# Altium schematic symbol library HomeProjects.SchLib: 161 symbols
Pins are listed as number, name and electrical type; pins without a type are passive.

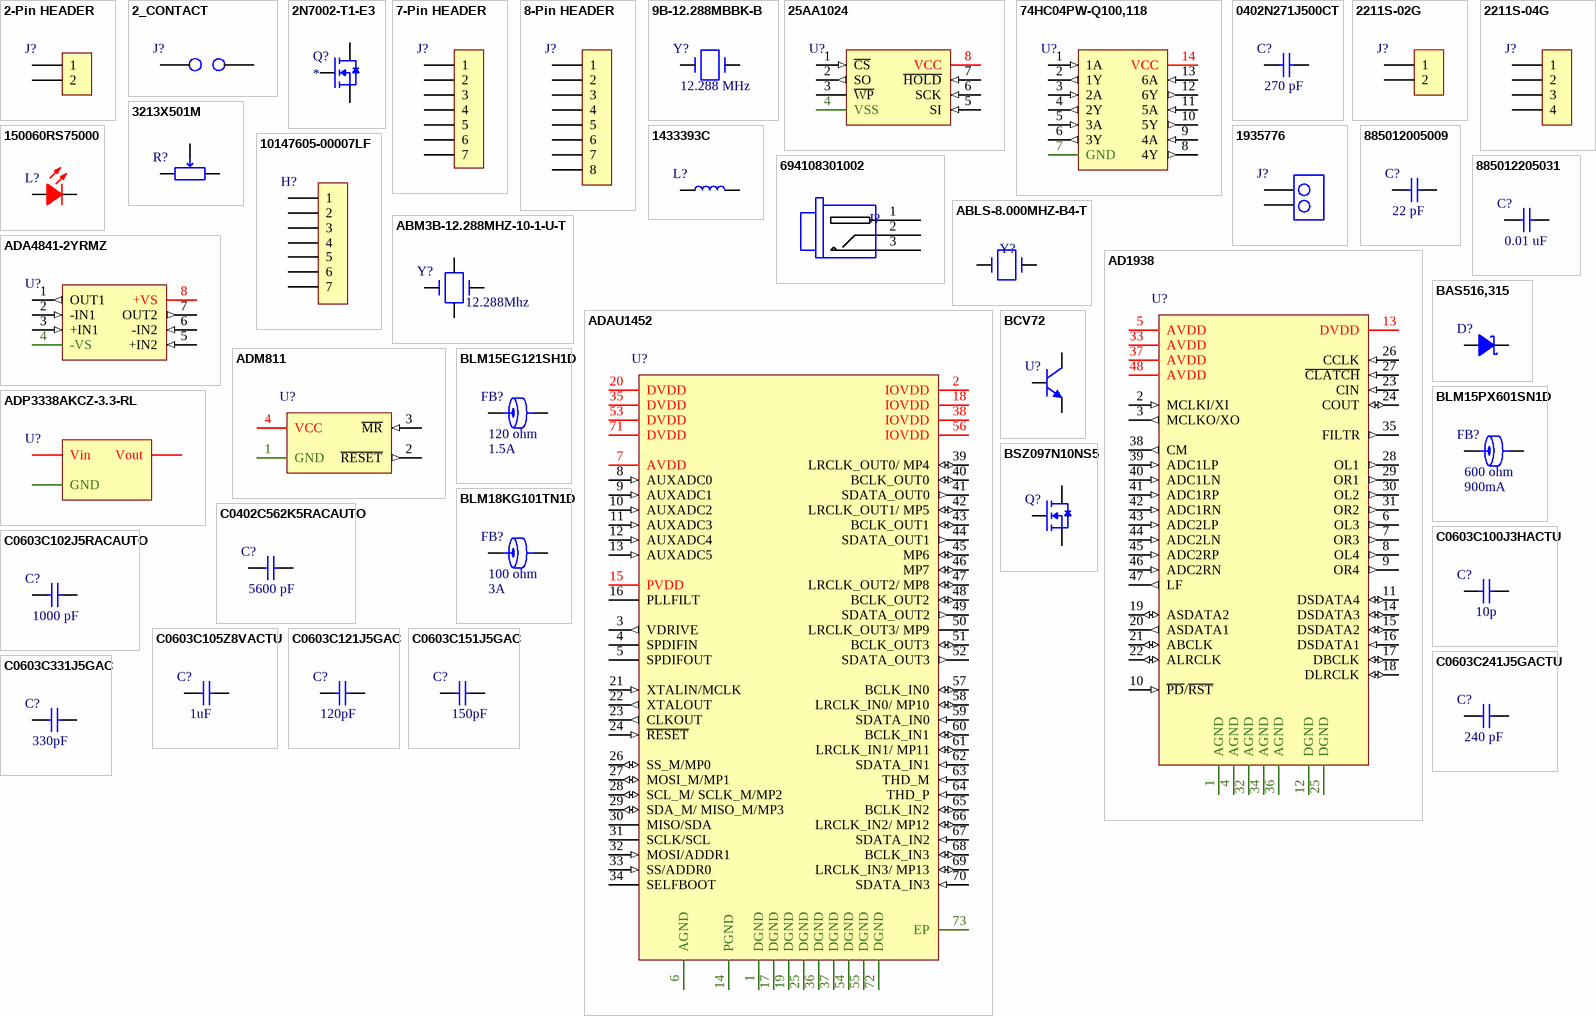
[diagram p0: symbols 2-Pin HEADER to C0603C331J5GAC]

## 2-Pin HEADER
designator J?  (value not drawn)
footprint 2-Pin Header
pins: 1, 2

## 2_CONTACT
designator J?  (value not drawn)
SMD contact, 2 pin, 1mm center distance
footprint 2_CONTACT
pins: 1, 2

## 2N7002-T1-E3
designator Q?
MOSFET 60V 0.115A 0.2W
footprint SOT-23-3
pins: D, G, S

## 7-Pin HEADER
designator J?  (value not drawn)
Board-To-Board Connector, Vertical, 2.54 mm, 2 Contacts, Header, Through Hole, 1 Rows
footprint 7-Pin HEADER
pins: 1, 2, 3, 4, 5, 6, 7

## 8-Pin HEADER
designator J?  (value not drawn)
Board-To-Board Connector, Vertical, 2.54 mm, 2 Contacts, Header, Through Hole, 1 Rows
footprint 8-Pin HEADER
pins: 1, 2, 3, 4, 5, 6, 7, 8

## 9B-12.288MBBK-B
designator Y?  Frequency: 12.288 MHz  (hidden comment: *)
Crystal, 12.288 MHz, Through Hole, 11.5mm x 5mm, 50 ppm, 20 pF, 50 ppm, 9B Series
footprint 11.5x5 Crystal
pins: 1, 2

## 25AA1024
designator U?  (value not drawn)
1 Mbit SPI Bus Serial EEPROM
footprint SM-8
pins: 1 ~{CS} (in), 2 SO (out), 3 ~{WP}, 4 VSS (power), 5 SI (in), 6 SCK (in), 7 ~{HOLD} (in), 8 VCC (power)

## 74HC04PW-Q100,118
designator U?  (value not drawn)
Inverters 74HC(T)04-Q100 - Hex inverter
footprint TSSOP-14
pins: 1 1A (in), 2 1Y (out), 3 2A (in), 4 2Y (out), 5 3A (in), 6 3Y (out), 7 GND (power), 8 4Y (out), 9 4A (in), 10 5Y (out), 11 5A (in), 12 6Y (out), 13 6A (in), 14 VCC (power)

## 0402N271J500CT
designator C?  Capacitance: 270 pF  (hidden comment: *)
SMD Multilayer Ceramic Capacitor, General Purpose, 0402 [1005 Metric], 270 pF, 50 V, ± 5%
footprint 0402
pins: 1, 2

## 2211S-02G
designator J?  (value not drawn)
Board-To-Board Connector, Vertical, 2.54 mm, 2 Contacts, Header, 2211S Series, Through Hole, 1 Rows
footprint 2-Pin Header
pins: 1, 2

## 2211S-04G
designator J?  (value not drawn)
Board-To-Board Connector, Vertical, 2.54 mm, 4 Contacts, Header, 2211S Series, Through Hole, 1 Rows
footprint 4-Pin Header
pins: 1, 2, 3, 4

## 3213X501M
designator R?  (value not drawn)
Trimmer Resistors - SMD 3213 500R
footprint 3213X501M
pins: 1, 2, 3

## 150060RS75000
designator L?  (value not drawn)
Standard LEDs - SMD WL-SMCW SMDMono TpVw Waterclr 0603 Red, 20mA, 2V
footprint 0603_LED
pins: A, K

## 1433393C
designator L?  (value not drawn)
Bobbin Type Inductor, 33uH, Idc=9.3A, Rdc=15mOhm, f=9.1Mhz
footprint Murate Inductor
pins: 1, 2

## 1935776
designator J?  (value not drawn)
PCB terminal block, nominal current: 32 A, nom. voltage: 400 V, pitch: 5 mm, number of positions: 2
footprint PT 2,5/ 2-5,0-H
pins: 1, 2

## 10147605-00007LF
designator H?  (value not drawn)
Headers & Wire Housings Vertical SMT Header, 7-positions
footprint 10147605
pins: 1, 2, 3, 4, 5, 6, 7

## 694108301002
designator J?  (value not drawn)
DC Power Connector, Jack, 5 A, 2.5 mm, Through Hole Mount, Through Hole
footprint POWER JACK
pins: 1, 2, 3

## 885012005009
designator C?  Capacitance: 22 pF  (hidden comment: *)
SMD Multilayer Ceramic Capacitor, 0402 [1005 Metric], 22 pF, 10 V, ± 5%, C0G / NP0
footprint 0402
pins: 1, 2

## 885012205031
designator C?  Capacitance: 0.01 uF  (hidden comment: *)
SMD Multilayer Ceramic Capacitor, 0402 [1005 Metric], 0.01 µF, 16 V, ± 10%, X7R, WCAP-CSGP Series
footprint 0402
pins: 1, 2

## ABLS-8.000MHZ-B4-T
designator Y?  (value not drawn)
Crystal, 8 MHz, SMD, 11.5mm x 4.7mm, 50 ppm, 18 pF, 30 ppm, ABLS Series
footprint HC/49US (AT49)
pins: 1, 2

## ABM3B-12.288MHZ-10-1-U-T
designator Y?  Frequency: 12.288Mhz  (hidden comment: *)
Crystals +/-10PPM 12.288MHZ 10pF Fundamental
footprint ABM3B
pins: 1, 2, 3, 4

## AD1938
designator U?  (value not drawn)
4 ADC/8 DAC with PLL, 192kHz, 24-Bit Codec
footprint 48-LQFP
pins: 1 AGND (power), 2 MCLKI/XI (in), 3 MCLKO/XO (out), 4 AGND (power), 5 AVDD (power), 6 OL3 (out), 7 OR3 (out), 8 OL4 (out), 9 OR4 (out), 10 ~{PD}/~{RST} (in), 11 DSDATA4 (io), 12 DGND (power), 13 DVDD (power), 14 DSDATA3 (io), 15 DSDATA2 (io), 16 DSDATA1 (in), 17 DBCLK (io), 18 DLRCLK (io), 19 ASDATA2 (io), 20 ASDATA1 (out), 21 ABCLK (io), 22 ALRCLK (io), 23 CIN (in), 24 COUT (io), 25 DGND (power), 26 CCLK (in), 27 ~{CLATCH} (in), 28 OL1 (out), 29 OR1 (out), 30 OL2 (out), 31 OR2 (out), 32 AGND (power), 33 AVDD (power), 34 AGND (power), 35 FILTR (out), 36 AGND (power), 37 AVDD (power), 38 CM (out), 39 ADC1LP (in), 40 ADC1LN (in), 41 ADC1RP (in), 42 ADC1RN (in), 43 ADC2LP (in), 44 ADC2LN (in), 45 ADC2RP (in), 46 ADC2RN (in), 47 LF (out), 48 AVDD (power)

## ADA4841-2YRMZ
designator U?  (value not drawn)
Low Power, Low Noise and Distortion,Rail-to-Rail Output Amplifiers
footprint MSOP-8
pins: 1 OUT1 (out), 2 -IN1 (in), 3 +IN1 (in), 4 -VS (power), 5 +IN2 (in), 6 -IN2 (in), 7 OUT2 (out), 8 +VS (power)

## ADAU1452
designator U?  (value not drawn)
Analog Devices SigmaDSP Digital Audio Processor
footprint 72-LFCSP_VQ
pins: 1 DGND (power), 2 IOVDD (power), 3 VDRIVE (out), 4 SPDIFIN, 5 SPDIFOUT, 6 AGND (power), 7 AVDD (power), 8 AUXADC0 (in), 9 AUXADC1 (in), 10 AUXADC2 (in), 11 AUXADC3 (in), 12 AUXADC4 (in), 13 AUXADC5 (in), 14 PGND (power), 15 PVDD (power), 16 PLLFILT, 17 DGND, 18 IOVDD (power), 19 DGND, 20 DVDD (power), 21 XTALIN/MCLK (in), 22 XTALOUT (out), 23 CLKOUT (out), 24 ~{RESET} (in), 25 DGND (power), 26 SS_M/MP0 (io), 27 MOSI_M/MP1 (io), 28 SCL_M/ SCLK_M/MP2 (io), 29 SDA_M/ MISO_M/MP3 (io), 30 MISO/SDA (oc), 31 SCLK/SCL, 32 MOSI/ADDR1 (in), 33 SS/ADDR0 (in), 34 SELFBOOT, 35 DVDD (power), 36 DGND, 37 DGND, 38 IOVDD (power), 39 LRCLK_OUT0/ MP4 (io), 40 BCLK_OUT0 (io), 41 SDATA_OUT0 (out), 42 LRCLK_OUT1/ MP5 (io), 43 BCLK_OUT1 (io), 44 SDATA_OUT1 (out), 45 MP6 (io), 46 MP7 (io), 47 LRCLK_OUT2/ MP8 (io), 48 BCLK_OUT2 (io), 49 SDATA_OUT2 (out), 50 LRCLK_OUT3/ MP9, 51 BCLK_OUT3 (io), 52 SDATA_OUT3 (out), 53 DVDD (power), 54 DGND, 55 DGND, 56 IOVDD (power), 57 BCLK_IN0 (io), 58 LRCLK_IN0/ MP10 (io), 59 SDATA_IN0 (in), 60 BCLK_IN1 (io), 61 LRCLK_IN1/ MP11 (io), 62 SDATA_IN1 (in), 63 THD_M (in), 64 THD_P (in), 65 BCLK_IN2 (io), 66 LRCLK_IN2/ MP12 (io), 67 SDATA_IN2 (in), 68 BCLK_IN3 (io), 69 LRCLK_IN3/ MP13 (io), 70 SDATA_IN3 (in), 71 DVDD (power), 72 DGND, 73 EP

## ADM811
designator U?  (value not drawn)
Supervisor, 1.2V-5.5V Supply, 3.08V Threshold, 560ms Delay, Active-Low, SOT-143-4
footprint 4-Pin SOT-143
pins: 1 GND (power), 2 ~{RESET} (out), 3 ~{MR} (in), 4 VCC (power)

## ADP3338AKCZ-3.3-RL
designator U?  (value not drawn)
High Accuracy, Ultralow IQ, 1 A, anyCAP® Low Dropout Regulator, Vout=3V3
footprint SOT-223-3
pins: 1 GND (power), 2 Vout (power), 3 Vin (power)

## BAS516,315
designator D?  (value not drawn)
Diodes - General Purpose, Power, Switching Diode Switching 85V 0.25A 2-Pin
footprint SOD-323
pins: A, K

## BCV72
designator U?  (value not drawn)
NPN general purpose transistors
footprint SOT23
pins: B, C, E

## BLM15EG121SH1D
designator FB?  Resistance@100Mhz: 120 ohm  Max_current: 1.5A  (hidden comment: *)
Ferrite Bead, 0402 [1005 Metric], 120 ohm, 1.5 A, BLM15EG Series, 0.095 ohm, ± 25%
footprint 0402
pins: 1, 2

## BLM15PX601SN1D
designator FB?  Max_current: 900mA  Resistance@100Mhz: 600 ohm  (hidden comment: *)
Ferrite Bead, 0402 [1005 Metric], 600 ohm, 900 mA, EMIFIL BLM15PX Series, 0.23 ohm, ± 25%
footprint 0402
pins: 1, 2

## BLM18KG101TN1D
designator FB?  Max_current: 3A  Resistance@100Mhz: 100 ohm  (hidden comment: *)
Ferrite Bead, 0603 [1608 Metric], 100 ohm, 3 A, BLM18K Series, 0.03 ohm, ± 25%
footprint 0603
pins: 1, 2

## BSZ097N10NS5
designator Q?  (value not drawn)
MOSFET N-Ch 100V 40A TSDSON-8
footprint PG-TSDSON-8
pins: D, G, S

## C0402C562K5RACAUTO
designator C?  Capacitance: 5600 pF  (hidden comment: *)
SMD Multilayer Ceramic Capacitor, 0402 [1005 Metric], 5600 pF, 50 V, ± 10%, X7R, C Series Kemet
footprint 0402
pins: 1, 2

## C0603C100J3HACTU
designator C?  Capacitance: 10p  (hidden comment: *)
Multilayer Ceramic Capacitors MLCC - SMD/SMT 25V 10pF 0603 X8R 5%
footprint 0603
pins: 1, 2

## C0603C102J5RACAUTO
designator C?  Capacitance: 1000 pF  (hidden comment: *)
Multilayer Ceramic Capacitors MLCC - SMD/SMT 50V 1000pF 0603 X7R 5% AEC-Q200
footprint 0603
pins: 1, 2

## C0603C105Z8VACTU
designator C?  Capacitance: 1uF  (hidden comment: *)
Multilayer Ceramic Capacitors MLCC - SMD/SMT 50V 0.1uF X7R 0805 20%
footprint 0603
pins: 1, 2

## C0603C121J5GAC
designator C?  Capacitance: 120pF  (hidden comment: *)
Multilayer Ceramic Capacitors MLCC - SMD/SMT 50V 120pF 0603 C0G 5%
footprint 0603
pins: 1, 2

## C0603C151J5GAC
designator C?  Capacitance: 150pF  (hidden comment: *)
Multilayer Ceramic Capacitors MLCC - SMD/SMT 50V 150pF 0603 C0G 0.05
footprint 0603
pins: 1, 2

## C0603C241J5GACTU
designator C?  Capacitance: 240 pF  (hidden comment: *)
SMD Multilayer Ceramic Capacitor, 0603 [1608 Metric], 240 pF, 50 V, ± 5%, C0G / NP0, C Series Kemet
footprint 0603
pins: 1, 2

## C0603C331J5GAC
designator C?  Capacitance: 330pF  (hidden comment: *)
Multilayer Ceramic Capacitors MLCC - SMD/SMT 50V 330pF 0603 C0G 5%
footprint 0603
pins: 1, 2

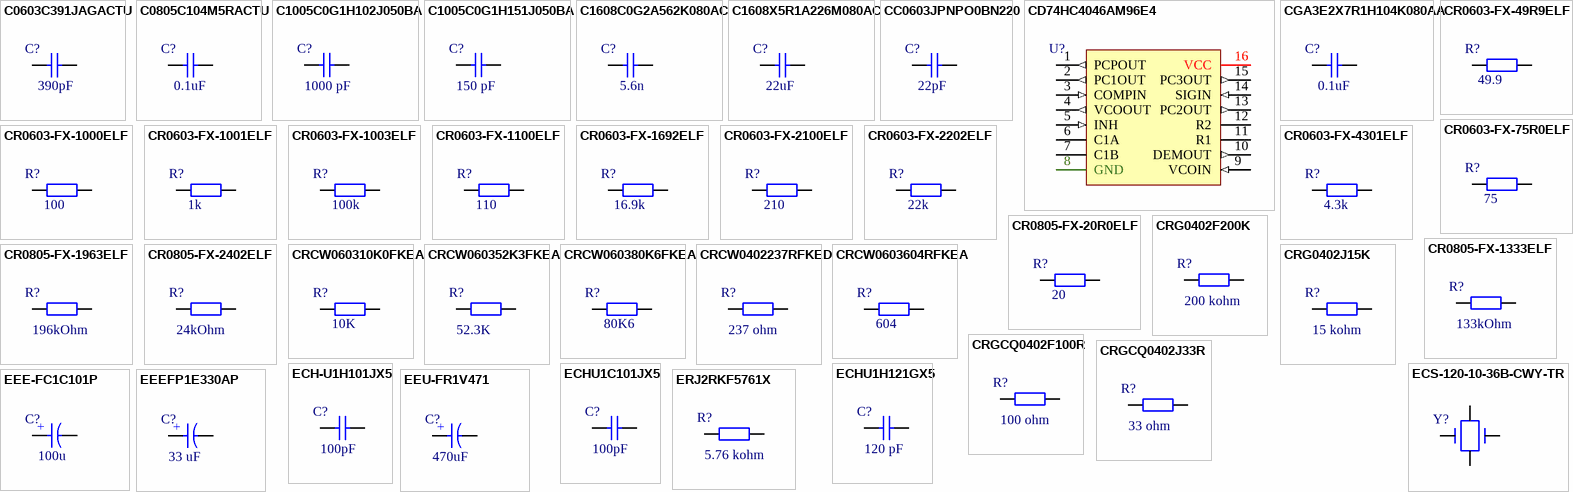
[diagram p1: symbols C0603C391JAGACTU to ERJ2RKF5761X]

## C0603C391JAGACTU
designator C?  Capacitance: 390pF  (hidden comment: *)
Multilayer Ceramic Capacitors MLCC - SMD/SMT 250V 390pF 0603 C0G 5%
footprint 0603
pins: 1, 2

## C0805C104M5RACTU
designator C?  Capacitance: 0.1uF  (hidden comment: *)
Multilayer Ceramic Capacitors MLCC - SMD/SMT 50V 0.1uF X7R 0805 20%
footprint 0805
pins: 1, 2

## C1005C0G1H102J050BA
designator C?  Capacitance: 1000 pF  (hidden comment: *)
SMD Multilayer Ceramic Capacitor, 0402 [1005 Metric], 1000 pF, 50 V, ± 5%, C0G / NP0, C Series TDK
footprint 0402
pins: 1, 2

## C1005C0G1H151J050BA
designator C?  Capacitance: 150 pF  (hidden comment: *)
SMD Multilayer Ceramic Capacitor, 0402 [1005 Metric], 150 pF, 50 V, ± 5%, C0G / NP0, C Series TDK
footprint 0402
pins: 1, 2

## C1608C0G2A562K080AC
designator C?  Capacitance: 5.6n  (hidden comment: *)
SMD Multilayer Ceramic Capacitors MLCC - SMD/SMT 100V 5600pF 0603 C0G 10%
footprint 0603
pins: 1, 2

## C1608X5R1A226M080AC
designator C?  Capacitance: 22uF  (hidden comment: *)
Multilayer Ceramic Capacitors MLCC - SMD/SMT 0603 10V 22uF X5R 20% T: 0.8mm
footprint 0603
pins: 1, 2

## CC0603JPNPO0BN220
designator C?  Capacitance: 22pF  (hidden comment: *)
Multilayer Ceramic Capacitors MLCC - SMD/SMT 22pF 5% 100V Mid Voltage
footprint 0603
pins: 1, 2

## CD74HC4046AM96E4
designator U?  (value not drawn)
Phase Locked Loops - PLL Hi-Spd CMOS Logic PLL
footprint SOP-16
pins: 1 PCPOUT (out), 2 PC1OUT (out), 3 COMPIN (in), 4 VCOOUT (out), 5 INH (in), 6 C1A, 7 C1B, 8 GND (power), 9 VCOIN (in), 10 DEMOUT (out), 11 R1, 12 R2, 13 PC2OUT (out), 14 SIGIN (in), 15 PC3OUT (out), 16 VCC (power)

## CGA3E2X7R1H104K080AA
designator C?  Capacitance: 0.1uF  (hidden comment: *)
Multilayer Ceramic Capacitors MLCC - SMD/SMT CGA 0603 50V 0.1uF X7R 10% AEC-Q200
footprint 0603
pins: 1, 2

## CR0603-FX-49R9ELF
designator R?  Resistance: 49.9  (hidden comment: *)
Thick Film Resistors - SMD 49.9 ohm 1%
footprint 0603_RES
pins: 1, 2

## CR0603-FX-75R0ELF
designator R?  Resistance: 75  (hidden comment: *)
Thick Film Resistors - SMD 75 ohm 1%
footprint 0603_RES
pins: 1, 2

## CR0603-FX-1000ELF
designator R?  Resistance: 100  (hidden comment: *)
Thick Film Resistors - SMD 100ohm 1% 1/10W
footprint 0603
pins: 1, 2

## CR0603-FX-1001ELF
designator R?  Resistance: 1k  (hidden comment: *)
Thick Film Resistors - SMD 1K 1% 1/10W
footprint 0603_RES
pins: 1, 2

## CR0603-FX-1003ELF
designator R?  Resistance: 100k  (hidden comment: *)
Thick Film Resistors - SMD 100K 1% 1/10 WATT
footprint 0603_RES
pins: 1, 2

## CR0603-FX-1100ELF
designator R?  Resistance: 110  (hidden comment: *)
Thick Film Resistors - SMD 110ohm 1% 1/10W
footprint 0603_RES
pins: 1, 2

## CR0603-FX-1692ELF
designator R?  Resistance: 16.9k  (hidden comment: *)
Thick Film Resistors - SMD 16.9K 1% 1/10W
footprint 0603_RES
pins: 1, 2

## CR0603-FX-2100ELF
designator R?  Resistance: 210  (hidden comment: *)
Thick Film Resistors - SMD 210 ohm 1%
footprint 0603_RES
pins: 1, 2

## CR0603-FX-2202ELF
designator R?  Resistance: 22k  (hidden comment: *)
Thick Film Resistors - SMD 22K ohm 1%
footprint 0603_RES
pins: 1, 2

## CR0603-FX-4301ELF
designator R?  Resistance: 4.3k  (hidden comment: *)
Thick Film Resistors - SMD 4.3K ohm 1%
footprint 0603_RES
pins: 1, 2

## CR0805-FX-20R0ELF
designator R?  Resistance: 20  (hidden comment: *)
Thick Film Resistors - SMD 20ohm 1%
footprint 0805
pins: 1, 2

## CR0805-FX-1333ELF
designator R?  Resistance: 133kOhm  (hidden comment: *)
SMD Chip Resistor, 133kOhm, 0805
footprint 0805-W
pins: 1, 2

## CR0805-FX-1963ELF
designator R?  Resistance: 196kOhm  (hidden comment: *)
SMD Chip Resistor, 196kOhm, 0805
footprint 0805-W
pins: 1, 2

## CR0805-FX-2402ELF
designator R?  Resistance: 24kOhm  (hidden comment: *)
SMD Chip Resistor, 24kOhm, 0805
footprint 0805-W
pins: 1, 2

## CRCW060310K0FKEA
designator R?  Resistance: 10K  (hidden comment: *)
Thick Film Resistors - SMD 1/10watt 10Kohms 1%
footprint 0603_RES
pins: 1, 2

## CRCW060352K3FKEA
designator R?  Resistance: 52.3K  (hidden comment: *)
Thick Film Resistors - SMD 1/10watt 52.3Kohms 1%
footprint 0603_RES
pins: 1, 2

## CRCW060380K6FKEA
designator R?  Resistance: 80K6  (hidden comment: *)
Thick Film Resistors - SMD 1/10watt 80.6Kohms 1%
footprint 0603_RES
pins: 1, 2

## CRCW0402237RFKED
designator R?  Resistance: 237 ohm  (hidden comment: *)
SMD Chip Resistor, 237 ohm, CRCW Series, 50 V, Thick Film, 0402 [1005 Metric], 63 mW
footprint 0402
pins: 1, 2

## CRCW0603604RFKEA
designator R?  Resistance: 604  (hidden comment: *)
Thick Film Resistors - SMD 1/10watt 604ohms 1%
footprint 0603_RES
pins: 1, 2

## CRG0402F200K
designator R?  Resistance: 200 kohm  (hidden comment: *)
SMD Chip Resistor, 200 kohm, CRG Series, 50 V, Thick Film, 0402 [1005 Metric], 63 mW
footprint 0402
pins: 1, 2

## CRG0402J15K
designator R?  Resistance: 15 kohm  (hidden comment: *)
SMD Chip Resistor, 15 kohm, CRG Series, 50 V, Thick Film, 0402 [1005 Metric], 63 mW
footprint 0402
pins: 1, 2

## CRGCQ0402F100R
designator R?  Resistance: 100 ohm  (hidden comment: *)
SMD Chip Resistor, 100 ohm, CRGCQ Series, 50 V, Thick Film, 0402 [1005 Metric], 63 mW
footprint 0402
pins: 1, 2

## CRGCQ0402J33R
designator R?  Resistance: 33 ohm  (hidden comment: *)
SMD Chip Resistor, 33 ohm, CRGCQ Series, 50 V, Thick Film, 0402 [1005 Metric], 63 mW
footprint 0402
pins: 1, 2

## ECH-U1H101JX5
designator C?  Capacitance: 100pF  (hidden comment: *)
Film Capacitors 100pF 50VDC 5% PPS FILM 0805
footprint 0805
pins: 1, 2

## ECHU1C101JX5
designator C?  Capacitance: 100pF  (hidden comment: *)
DC Film Capacitor, 100 pF, 16 V, PPS (Polyphenylene Sulphide), ± 5%, ECHU(X) Series
footprint 0603
pins: 1, 2

## ECHU1H121GX5
designator C?  Capacitance: 120 pF  (hidden comment: *)
DC Film Capacitor, 120 pF, 50 V, PPS (Polyphenylene Sulphide), ± 2%
footprint 0805
pins: 1, 2

## ECS-120-10-36B-CWY-TR
designator Y?  (value not drawn)
Crystals 12MHz ESR 130 10pF-30C +85C
footprint ECX-2236B
pins: 1, 2, 3, 4

## EEE-FC1C101P
designator C?  Capacitance: 100u  (hidden comment: *)
Aluminium Electrolytic Capacitors - SMD 100uF 16V
footprint 8x6.2 EL_CAP
pins: 1, 2
text: +

## EEEFP1E330AP
designator C?  Capacitance: 33 uF  (hidden comment: *)
SMD Aluminium Electrolytic Capacitor, Radial Can - SMD, 33 µF, 25 V, 0.26 ohm, FP Series
footprint 6.3X5.8 EL_CAP
pins: 1, 2
text: +

## EEU-FR1V471
designator C?  Capacitance: 470uF  (hidden comment: *)
Aluminum Electrolytic Capacitors, 470uF, Low ESR
footprint 5mm lead spacing ELCAP
pins: 1, 2
text: +

## ERJ2RKF5761X
designator R?  Resistance: 5.76 kohm  (hidden comment: *)
SMD Chip Resistor, 5.76 kohm, ERJ2R Series, 50 V, Thick Film, 0402 [1005 Metric], 100 mW
footprint 0402
pins: 1, 2

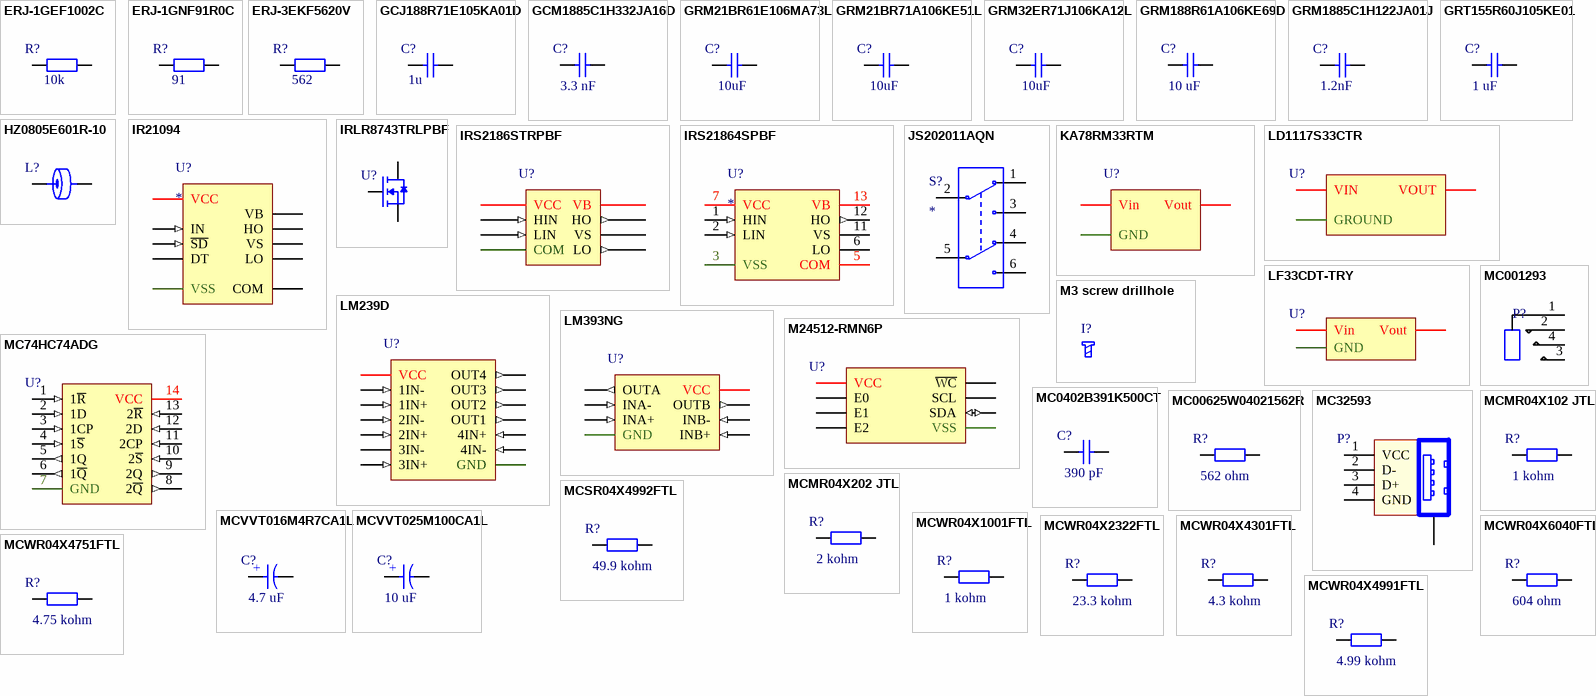
[diagram p2: symbols ERJ-1GEF1002C to MCWR04X6040FTL]

## ERJ-1GEF1002C
designator R?  Resistance: 10k  (hidden comment: *)
Thick Film Resistors - SMD 0201 10Kohms 1% Tol AEC-Q200
footprint 0603_RES
pins: 1, 2

## ERJ-1GNF91R0C
designator R?  Resistance: 91  (hidden comment: *)
Thick Film Resistors - SMD 0201 91ohm 1% HalogenFree AEC-Q200
footprint 0603_RES
pins: 1, 2

## ERJ-3EKF5620V
designator R?  Resistance: 562  (hidden comment: *)
Thick Film Resistors - SMD 0603 562ohms 1% AEC-Q200
footprint 0603_RES
pins: 1, 2

## GCJ188R71E105KA01D
designator C?  Capacitance: 1u  (hidden comment: *)
Multilayer Ceramic Capacitors MLCC - SMD/SMT 0603 1uF 25volts X7R 10% Soft Term
footprint 0603
pins: 1, 2

## GCM1885C1H332JA16D
designator C?  Capacitance: 3.3 nF  (hidden comment: *)
SMD Multilayer Ceramic Capacitor, 0603 [1608 Metric], 3300 pF, 50 V, ± 5%, C0G / NP0, GCM Series
footprint 0603
pins: 1, 2

## GRM21BR61E106MA73L
designator C?  Capacitance: 10uF  (hidden comment: *)
Multilayer Ceramic Capacitors MLCC - SMD/SMT 0805 10uF 25volts X5R 20%
footprint 0805
pins: 1, 2

## GRM21BR71A106KE51L
designator C?  Capacitance: 10uF  (hidden comment: *)
Multilayer Ceramic Capacitors MLCC - SMD/SMT 0805 10VDC 10uF 10% X7R
footprint 0805
pins: 1, 2

## GRM32ER71J106KA12L
designator C?  Capacitance: 10uF  (hidden comment: *)
Multilayer Ceramic Capacitors MLCC - SMD/SMT 1210 10uF 63volts *Derate Voltage/Temp
footprint 1210
pins: 1, 2

## GRM188R61A106KE69D
designator C?  Capacitance: 10 uF  (hidden comment: *)
SMD Multilayer Ceramic Capacitor, 0603 [1608 Metric], 10 µF, 10 V, ± 10%, X5R, GRM Series
footprint 0603
pins: 1, 2

## GRM1885C1H122JA01J
designator C?  Capacitance: 1.2nF  (hidden comment: *)
Multilayer Ceramic Capacitors MLCC - SMD/SMT 0603 1200pF 50volts C0G 5%
footprint 0603
pins: 1, 2

## GRT155R60J105KE01
designator C?  Capacitance: 1 uF  (hidden comment: *)
SMD Multilayer Ceramic Capacitor, 0402 [1005 Metric], 1 µF, 6.3 V, ± 10%, X5R, GRT Series
footprint 0402
pins: 1, 2

## HZ0805E601R-10
designator L?  (value not drawn)
Ferrite Beads 600ohms 100MHz .5A Monolithic 0805 SMD
footprint 0805_FERRIT
pins: 1, 2

## IR21094
designator U?
Dual MOSFET Driver, Half Bridge, 10V-20V Supply, 350mA Out, 200ns Delay, DIP-14
footprint 14-Pin PDIP
footprint 14-Pin SOIC
pins: 1 VCC (power), 2 IN (in), 3 ~{SD} (in), 4 DT, 5 VSS (power), 6 COM, 7 LO, 11 VS, 12 HO, 13 VB

## IRLR8743TRLPBF
designator U?  (value not drawn)
HEXFET2Power MOSFET, Vdss=30V, Rdson=3.1mOhm, Qg=39nC, Id=160A
footprint TO-252 (DPAK)
pins: D, G, S

## IRS2186STRPBF
designator U?  (value not drawn)
High and Low Side Driver
footprint 8-Pin SOIC (Narrow body)
pins: 1 HIN (in), 2 LIN (in), 3 COM (power), 4 LO (out), 5 VCC (power), 6 VS, 7 HO (out), 8 VB (power)

## IRS21864SPBF
designator U?
High and Low Side Driver, Dual power supply
footprint 14-Pin SOIC
pins: 1 HIN (in), 2 LIN (in), 3 VSS (power), 5 COM (power), 6 LO, 7 VCC, 11 VS, 12 HO (out), 13 VB (power)

## JS202011AQN
designator S?
Slide Switch, DPDT, On-Off-On, Through Hole, JS Series, 300 mA
footprint 6-Pin SWITCH
pins: 1 NC1, 2 COMMON1, 3 NO1, 4 NC2, 5 COMMON2, 6 NO2

## KA78RM33RTM
designator U?  (value not drawn)
Fixed LDO Voltage Regulator, 3.9V to 20V, 0.5V Dropout, 3.3V/1A out, TO-252-3
footprint 3-Pin DPAK (TO-252)
pins: 1 Vin (power), 2 GND (power), 3 Vout (power)

## LD1117S33CTR
designator U?  (value not drawn)
LDO Voltage Regulators 3.3V 0.8A Positive
footprint SOT-223
pins: 1 GROUND (power), 2 VOUT (power), 3 VIN (power)

## LF33CDT-TRY
designator U?  (value not drawn)
Linear Voltage Regulators VLDV Reg Inhibit 0.45V 50uA 500mA 3.3V
footprint DPAK
pins: D GND (power), G Vin (power), S Vout (power)

## LM239D
designator U?  (value not drawn)
Analogue Comparator, Low Power, 4 Comparators, 300 ns, ± 1V to ± 18V, SOIC, 14 Pins; distributor: farnell
footprint 14-Pin SOIC
pins: 1 OUT1 (out), 2 OUT2 (out), 3 VCC (power), 4 2IN- (in), 5 2IN+ (in), 6 1IN- (in), 7 1IN+ (in), 8 3IN-, 9 3IN+ (in), 10 4IN- (in), 11 4IN+ (in), 12 GND (power), 13 OUT4 (out), 14 OUT3 (out)

## LM393NG
designator U?  (value not drawn)
Analogue Comparator, Dual, Low Offset Voltage, 2 Comparators, 1.3 µs, ± 1V to ± 18V, DIP, 8 Pins
footprint 8-Pin PDIP
footprint 8-Pin SOIC (Narrow body)
pins: 1 OUTA (out), 2 INA- (in), 3 INA+ (in), 4 GND (power), 5 INB+ (in), 6 INB- (in), 7 OUTB (out), 8 VCC (power)

## M3 screw drillhole
designator I?  (value not drawn)
5mm diameter via with 3mm hole
footprint 3mm diameter drill

## M24512-RMN6P
designator U?  (value not drawn)
EEPROM, I2C, 512 Kbit, 64K x 8bit, 1 MHz, SOIC, 8 Pins
footprint 8-Pin SOIC (Narrow body)
pins: 1 E0, 2 E1, 3 E2, 4 VSS (power), 5 SDA (io), 6 SCL, 7 ~{WC}, 8 VCC (power)

## MC74HC74ADG
designator U?  (value not drawn)
Flip-Flops 2-6V CMOS Dual D-Type w/Set Reset
footprint SOIC-14
pins: 1 1~{R} (in), 2 1D (in), 3 1CP (in), 4 1~{S} (in), 5 1Q (out), 6 1~{Q} (out), 7 GND (power), 8 2~{Q} (out), 9 2Q (out), 10 2~{S} (in), 11 2CP (in), 12 2D (in), 13 2~{R} (in), 14 VCC (power)

## MC0402B391K500CT
designator C?  Capacitance: 390 pF  (hidden comment: *)
SMD Multilayer Ceramic Capacitor, 0402 [1005 Metric], 390 pF, 50 V, ± 10%, X7R, MC Series
footprint 0402
pins: 1, 2

## MC00625W04021562R
designator R?  Resistance: 562 ohm  (hidden comment: *)
SMD Chip Resistor, 562 ohm, MC 1% Series, 50 V, Thick Film, 0402 [1005 Metric], 62.5 mW
footprint 0402
pins: 1, 2

## MC001293
designator P?  (value not drawn)
Phone Audio Connector, 4 Contacts, Jack, 3.5 mm, PCB Mount
footprint 4-Pin 3.5 Jack
pins: 1 GND, 2 MIC, 3 LEFT, 4 RIGHT

## MC32593
designator P?  (value not drawn)
USB Connector, USB Type A, USB 2.0, Receptacle, 4 Ways, Through Hole Mount, Right Angle
footprint MC32593
pins: 0 MNT/GND, 1 VCC, 2 D-, 3 D+, 4 GND (power)

## MCMR04X102 JTL
designator R?  Resistance: 1 kohm  (hidden comment: *)
SMD Chip Resistor, Ceramic, 1 kohm, MCMR Series, 50 V, Thick Film, 0402 [1005 Metric], 62.5 mW
footprint 0402
pins: 1, 2

## MCMR04X202 JTL
designator R?  Resistance: 2 kohm  (hidden comment: *)
SMD Chip Resistor, Ceramic, 2 kohm, MCMR Series, 50 V, Thick Film, 0402 [1005 Metric], 62.5 mW
footprint 0402
pins: 1, 2

## MCSR04X4992FTL
designator R?  Resistance: 49.9 kohm  (hidden comment: *)
SMD Chip Resistor, 49.9 kohm, MCSR 04 Series, 50 V, Ceramic, 0402 [1005 Metric], 62.5 mW
footprint 0402
pins: 1, 2

## MCVVT016M4R7CA1L
designator C?  Capacitance: 4.7 uF  (hidden comment: *)
SMD Aluminium Electrolytic Capacitor, Radial Can - SMD, 4.7 µF, 16 V, VT, V-Chip Series
footprint 4x5.4 EL_CAP
pins: 1, 2
text: +

## MCVVT025M100CA1L
designator C?  Capacitance: 10 uF  (hidden comment: *)
SMD Aluminium Electrolytic Capacitor, Radial Can - SMD, 10 µF, 25 V, VT, V-Chip Series
footprint 4x5.4 EL_CAP
pins: 1, 2
text: +

## MCWR04X1001FTL
designator R?  Resistance: 1 kohm  (hidden comment: *)
SMD Chip Resistor, 1 kohm, MCWR Series, 50 V, Thick Film, 0402 [1005 Metric], 62.5 mW
footprint 0402
pins: 1, 2

## MCWR04X2322FTL
designator R?  Resistance: 23.3 kohm  (hidden comment: *)
SMD Chip Resistor, 23.2 kohm, MCWR04 Series, 50 V, Thick Film, 0402 [1005 Metric], 62.5 mW
footprint 0402
pins: 1, 2

## MCWR04X4301FTL
designator R?  Resistance: 4.3 kohm  (hidden comment: *)
SMD Chip Resistor, 4.3 kohm, MCWR Series, 50 V, Thick Film, 0402 [1005 Metric], 62.5 mW
footprint 0402
pins: 1, 2

## MCWR04X4751FTL
designator R?  Resistance: 4.75 kohm  (hidden comment: *)
SMD Chip Resistor, 4.75 kohm, MCWR Series, 50 V, Thick Film, 0402 [1005 Metric], 62.5 mW
footprint 0402
pins: 1, 2

## MCWR04X4991FTL
designator R?  Resistance: 4.99 kohm  (hidden comment: *)
SMD Chip Resistor, 4.99 kohm, MCWR Series, 50 V, Thick Film, 0402 [1005 Metric], 62.5 mW
footprint 0402
pins: 1, 2

## MCWR04X6040FTL
designator R?  Resistance: 604 ohm  (hidden comment: *)
SMD Chip Resistor, 604 ohm, MCWR04 Series, 50 V, Thick Film, 0402 [1005 Metric], 62.5 mW
footprint 0402
pins: 1, 2

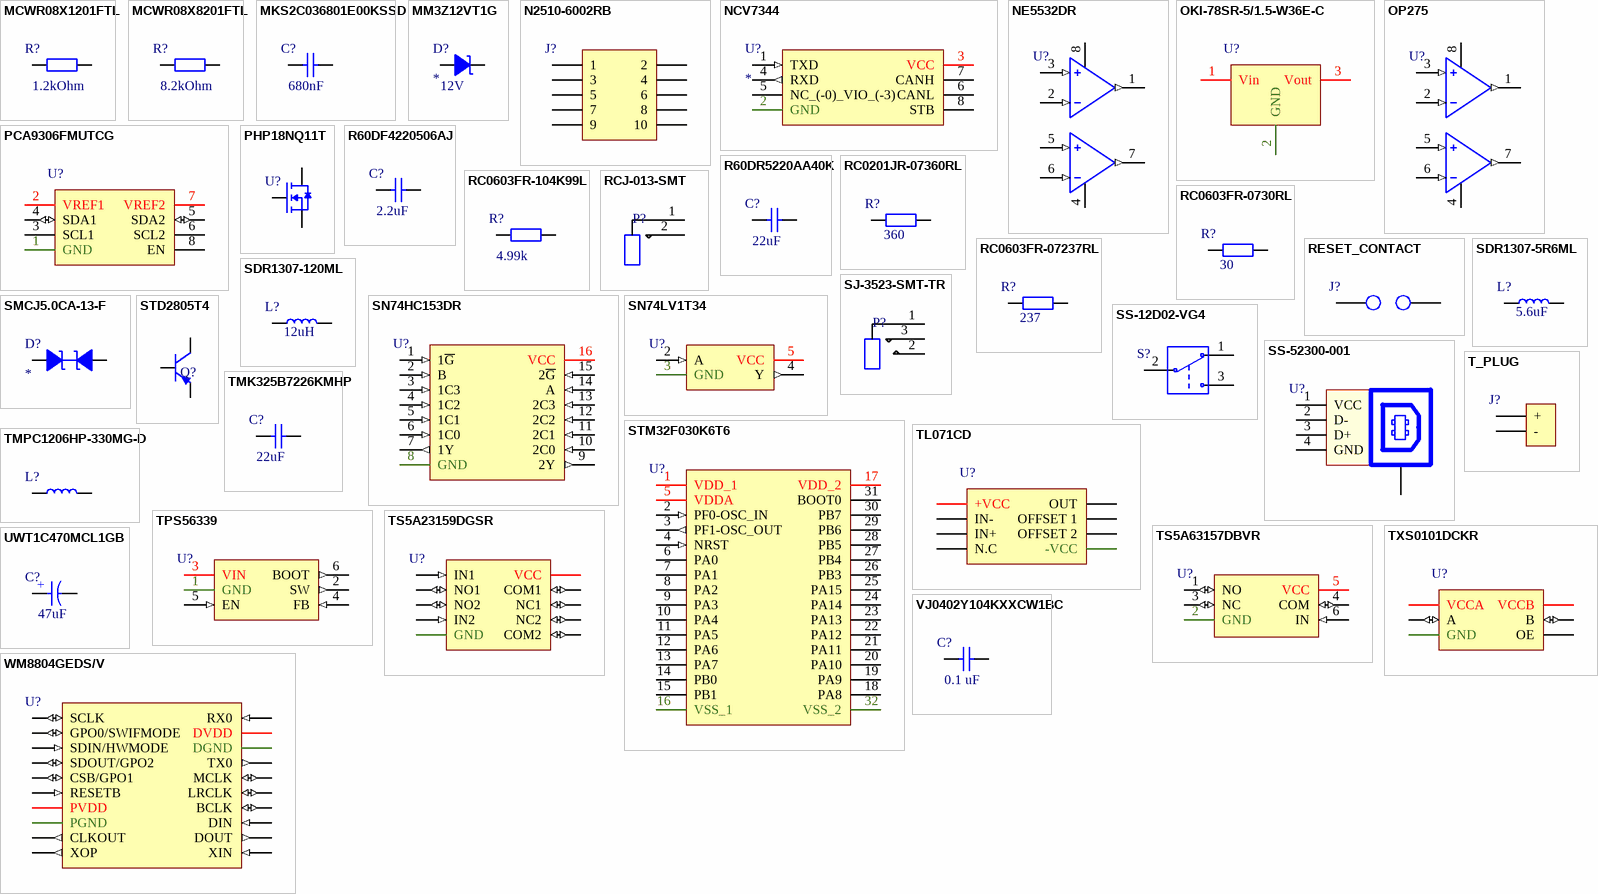
[diagram p3: symbols MCWR08X1201FTL to WM8804GEDS/V]

## MCWR08X1201FTL
designator R?  Resistance: 1.2kOhm  (hidden comment: *)
SMD Chip Resistor, 0805 [2012 Metric], 1.2 kohm, MCWR Series, 150 V, Thick Film, 125 mW
footprint 0805-W
pins: 1, 2

## MCWR08X8201FTL
designator R?  Resistance: 8.2kOhm  (hidden comment: *)
SMD Chip Resistor, 0805 [2012 Metric], 8.2 kohm, MCWR Series, 150 V, Thick Film, 125 mW
footprint 0805-W
pins: 1, 2

## MKS2C036801E00KSSD
designator C?  Capacitance: 680nF  (hidden comment: *)
Metallized Polyester (PET) Capacitors in PCM 5 mm, 680nF
footprint 5mm lead spacing CAP
pins: 1, 2

## MM3Z12VT1G
designator D?  Vzener: 12V
Zener Voltage Regulators
footprint SOD-323 (Footprint not found)
pins: A, K

## N2510-6002RB
designator J?  (value not drawn)
10 pin HEADER
footprint SHDR10W64P254_2X5_2002X859X1004P
pins: 1, 2, 3, 4, 5, 6, 7, 8, 9, 10

## NCV7344
designator U?
High Speed Low PowerCAN, CAN FD Transceiver
footprint 8-Pin SOIC (Narrow body)
pins: 1 TXD (in), 2 GND (power), 3 VCC (power), 4 RXD (out), 5 NC_(-0)_VIO_(-3) (power), 6 CANL, 7 CANH, 8 STB

## NE5532DR
designator U?  (value not drawn)
Dual Low-Noise Operational Amplifiers
footprint 8-Pin SOIC (Narrow body)
pins: 1 OUT (out), 2 IN- (in), 3 IN+ (in), 4 GND (power), 5 IN+ (in), 6 IN- (in), 7 OUT (out), 8 GND (power)

## OKI-78SR-5/1.5-W36E-C
designator U?
Encapsulated Non-Isolated Switching Regulator DC-DC
pins: 1 Vin (power), 2 GND (power), 3 Vout (power)

## OP275
designator U?  (value not drawn)
Dual Bipolar/JFET, Audio / Operational Amplifier
footprint 8-Pin SOIC (Narrow body)
pins: 1 OUT (out), 2 IN- (in), 3 IN+ (in), 4 GND (power), 5 IN+ (in), 6 IN- (in), 7 OUT (out), 8 GND (power)

## PCA9306FMUTCG
designator U?  (value not drawn)
Voltage Level Translator, Bidirectional, 2 Input, 64 mA, 1.5 ns, 0 V to 5.5 V, UDFN-8
footprint 8-Pin UDFN
pins: 1 GND (power), 2 VREF1 (power), 3 SCL1, 4 SDA1 (io), 5 SDA2 (io), 6 SCL2, 7 VREF2 (power), 8 EN

## PHP18NQ11T
designator U?  (value not drawn)
N-channel TrenchMOS standard level FET
footprint TO-220AB (SOT78)
pins: D, G, S

## R60DF4220506AJ
designator C?  Capacitance: 2.2uF  (hidden comment: *)
General Purpose Metallized Polyester Film Capacitor, 2.2 uF, 40 VAC, 63 VDC , 5 %
footprint 10mm lead spacing CAP
pins: 1, 2

## R60DR5220AA40K
designator C?  Capacitance: 22uF  (hidden comment: *)
General Purpose Metallized Polyester Film Capacitor, 22uF
footprint 27.5mm lead spacing CAP
pins: 1, 2

## RC0201JR-07360RL
designator R?  Resistance: 360  (hidden comment: *)
Thick Film Resistors - SMD 360 OHM 5%
footprint 0603_RES
pins: 1, 2

## RC0603FR-104K99L
designator R?  Resistance: 4.99k  (hidden comment: *)
Thick Film Resistors - SMD 4.99K ohm 1% 75V General Purpose
footprint 0603_RES
pins: 1, 2

## RC0603FR-0730RL
designator R?  Resistance: 30  (hidden comment: *)
Thick Film Resistors - SMD 30 OHM 1%
footprint 0603_RES
pins: 1, 2

## RC0603FR-07237RL
designator R?  Resistance: 237  (hidden comment: *)
Thick Film Resistors - SMD 237 OHM 1%
footprint 0603_RES
pins: 1, 2

## RCJ-013-SMT
designator P?  (value not drawn)
RCA Phono Connectors RCA jack, 1P, rt, SMT, WH, T&R package
footprint RCJ-01X-SMT
pins: 1 GND, 2 MIC

## RESET_CONTACT
designator J?  (value not drawn)
Two 0.5mm dia. rounded pad solder contact
footprint 2-Pin CONTACT
pins: 1, 2

## SDR1307-5R6ML
designator L?  Inductance: 5.6uF  (hidden comment: *)
Fixed Inductors 5.6uH 20% SMD 1307
footprint SDR1307
pins: 1, 2

## SDR1307-120ML
designator L?  Inductance: 12uH  (hidden comment: *)
Fixed Inductors 12uH 20% SMD 1307
footprint SDR1307
pins: 1, 2

## SJ-3523-SMT-TR
designator P?  (value not drawn)
Phone Audio Connector, 3 Contacts, Jack, 3.5 mm, SMD
footprint SJ-3523-SMT
pins: 1 GND, 2 TIP, 3 RING

## SMCJ5.0CA-13-F
designator D?
ESD Suppressors / TVS Diodes 1500W 5.0V
pins: A, K

## SN74HC153DR
designator U?  (value not drawn)
Encoders, Decoders, Multiplexers & Demultiplexers Dual 4 to 1-Line Selector/Multiplexer
footprint SOP-16
pins: 1 1~{G} (in), 2 B (in), 3 1C3 (in), 4 1C2 (in), 5 1C1 (in), 6 1C0 (in), 7 1Y (out), 8 GND (power), 9 2Y (out), 10 2C0 (in), 11 2C1 (in), 12 2C2 (in), 13 2C3 (in), 14 A (in), 15 2~{G} (in), 16 VCC (power)

## SN74LV1T34
designator U?  (value not drawn)
SinglePowerSupplySingleBufferGATECMOSLogic Level Shifter
footprint SC70-5
pins: 2 A (in), 3 GND (power), 4 Y (out), 5 VCC (power)

## SS-12D02-VG4
designator S?  (value not drawn)
Korean Hroparts Elec SS-12D02-VG4, Through Hole Toggle Switch 3P
footprint SS12D02VG4
pins: 1 NC1, 2 COMMON1, 3 NO1

## SS-52300-001
designator U?  (value not drawn)
USB 2.0 Type-B Connector
pins: 0 MNT/GND, 1 VCC, 2 D-, 3 D+, 4 GND (power)

## STD2805T4
designator Q?
Low voltage fast-switching PNP power transistor
footprint TO-252 (DPAK)
pins: B, C, E

## STM32F030K6T6
designator U?  (value not drawn)
Value-line ARM®-based 32-bit MCU with up to 256 KB Flash, timers, ADC, communication interfaces, 2.4-3.6 V operation
footprint LQFP-32
pins: 1 VDD_1 (power), 2 PF0-OSC_IN (in), 3 PF1-OSC_OUT (out), 4 NRST (in), 5 VDDA (power), 6 PA0, 7 PA1, 8 PA2, 9 PA3, 10 PA4, 11 PA5, 12 PA6, 13 PA7, 14 PB0, 15 PB1, 16 VSS_1 (power), 17 VDD_2 (power), 18 PA8, 19 PA9, 20 PA10, 21 PA11, 22 PA12, 23 PA13, 24 PA14, 25 PA15, 26 PB3, 27 PB4, 28 PB5, 29 PB6, 30 PB7, 31 BOOT0, 32 VSS_2 (power)

## T_PLUG
designator J?  (value not drawn)
LiPo battery T plug connector
footprint T_plug
pins: 1 +, 2 -

## TL071CD
designator U?  (value not drawn)
Low noise JFET single operational amplifier
footprint SO-8
pins: 1 OFFSET 1, 2 IN-, 3 IN+, 4 -VCC, 5 OFFSET 2, 6 OUT, 7 +VCC, 8 N.C

## TMK325B7226KMHP
designator C?  Capacitance: 22uF  (hidden comment: *)
Multilayer Ceramic Capacitors MLCC - SMD/SMT 1210 25V 22uF 10% X7R AEC-Q200
footprint 1210
pins: 1, 2

## TMPC1206HP-330MG-D
designator L?  (value not drawn)
SMD Power Inductor, 13.5x12.5x5.7mm, 33uH, +/-20%, 6A, 65mOhm
footprint SMD_INDUCTOR_13.5x12.5x5.7mm
pins: 1, 2

## TPS56339
designator U?  (value not drawn)
4.5-V to 24-V Input, 3-A Output Synchronous Buck Converter
footprint SOT-23-Thin-6
pins: 1 GND (power), 2 SW (out), 3 VIN (power), 4 FB (in), 5 EN (in), 6 BOOT (out)

## TS5A23159DGSR
designator U?  (value not drawn)
Analogue Switch ICs 1-Ohm Dual SPDT Ana Sw Mult/DeMult
footprint MSOP-10
pins: 1 IN1 (in), 2 NO1 (io), 3 GND (power), 4 NO2 (io), 5 IN2 (in), 6 COM2 (io), 7 NC2 (io), 8 VCC (power), 9 NC1 (io), 10 COM1 (io)

## TS5A63157DBVR
designator U?  (value not drawn)
Analogue Switch ICs 15-Ohm SPDT Analog Switch
footprint SOT-23-6
pins: 1 NO (io), 2 GND (power), 3 NC (io), 4 COM (io), 5 VCC (power), 6 IN (in)

## TXS0101DCKR
designator U?  (value not drawn)
Voltage Level Translator, 1 Input, 4.2 ns, 1.65 V to 5.5 V, SC-70-6
footprint 6-Pin SC70
pins: 1 VCCA (power), 2 GND (power), 3 A (io), 4 B (io), 5 OE, 6 VCCB (power)

## UWT1C470MCL1GB
designator C?  Capacitance: 47uF  (hidden comment: *)
Aluminium Electrolytic Capacitors - SMD 16volts 47uF 20%
footprint WT_6.3X7.7
pins: 1, 2
text: +

## VJ0402Y104KXXCW1BC
designator C?  Capacitance: 0.1 uF  (hidden comment: *)
SMD Multilayer Ceramic Capacitor, 0402 [1005 Metric], 0.1 µF, 25 V, ± 10%, X7R, VJ Series
footprint 0402
pins: 1, 2

## WM8804GEDS/V
designator U?  (value not drawn)
Audio Transmitters, Receivers, Transceivers 1:1 Digi Interface Trancvr w/ PLL
footprint SSOP-20
pins: 1 SCLK (io), 2 GPO0/SWIFMODE (io), 3 SDIN/HWMODE (in), 4 SDOUT/GPO2 (io), 5 CSB/GPO1 (io), 6 RESETB (in), 7 PVDD (power), 8 PGND (power), 9 CLKOUT (out), 10 XOP (out), 11 XIN (in), 12 DOUT (out), 13 DIN (in), 14 BCLK (io), 15 LRCLK (io), 16 MCLK (io), 17 TX0 (out), 18 DGND (power), 19 DVDD (power), 20 RX0 (in)

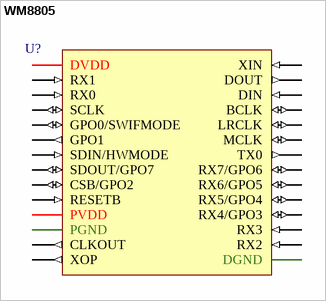
[diagram p4: symbol WM8805]

## WM8805
designator U?  (value not drawn)
8:1 Digital Interface Transceiver with PLL
footprint SSOP-28
pins: 1 DVDD (power), 2 RX1 (in), 3 RX0 (in), 4 SCLK (io), 5 GPO0/SWIFMODE (io), 6 GPO1 (out), 7 SDIN/HWMODE (in), 8 SDOUT/GPO7 (io), 9 CSB/GPO2 (io), 10 RESETB (in), 11 PVDD (power), 12 PGND (power), 13 CLKOUT (out), 14 XOP (out), 15 XIN (in), 16 DOUT (out), 17 DIN (in), 18 BCLK (io), 19 LRCLK (io), 20 MCLK (io), 21 TX0 (out), 22 RX7/GPO6 (io), 23 RX6/GPO5 (io), 24 RX5/GPO4 (io), 25 RX4/GPO3 (io), 26 RX3 (in), 27 RX2 (in), 28 DGND (power)